# EAGLE library part TA7257P (library mdrive)
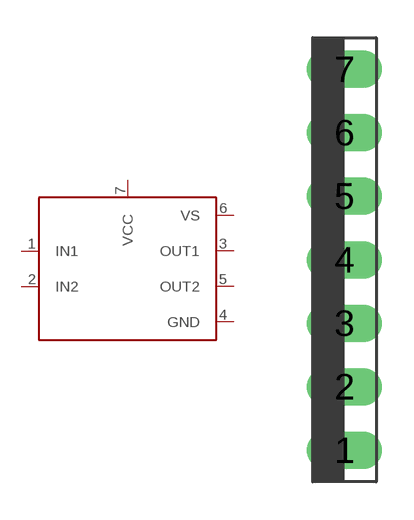
[diagram p0: symbol with the pads of TA7257P; footprint TA7257P]

Designator prefix IC

## TA7257P  [TA7257P]
1  IN1  in
2  IN2  in
3  OUT1  out
4  GND  pwr
5  OUT2  out
6  VS  pwr
7  VCC  pwr

## Footprint TA7257P (pad centres in mm)
drill 1 long: 1 0,-7.62; 2 0,-5.08; 3 0,-2.54; 4 0,0; 5 0,2.54; 6 0,5.08; 7 0,7.62